# Altium integrated library Infineon_Microcontroller.IntLib: 721 symbols (part 61 of 66)
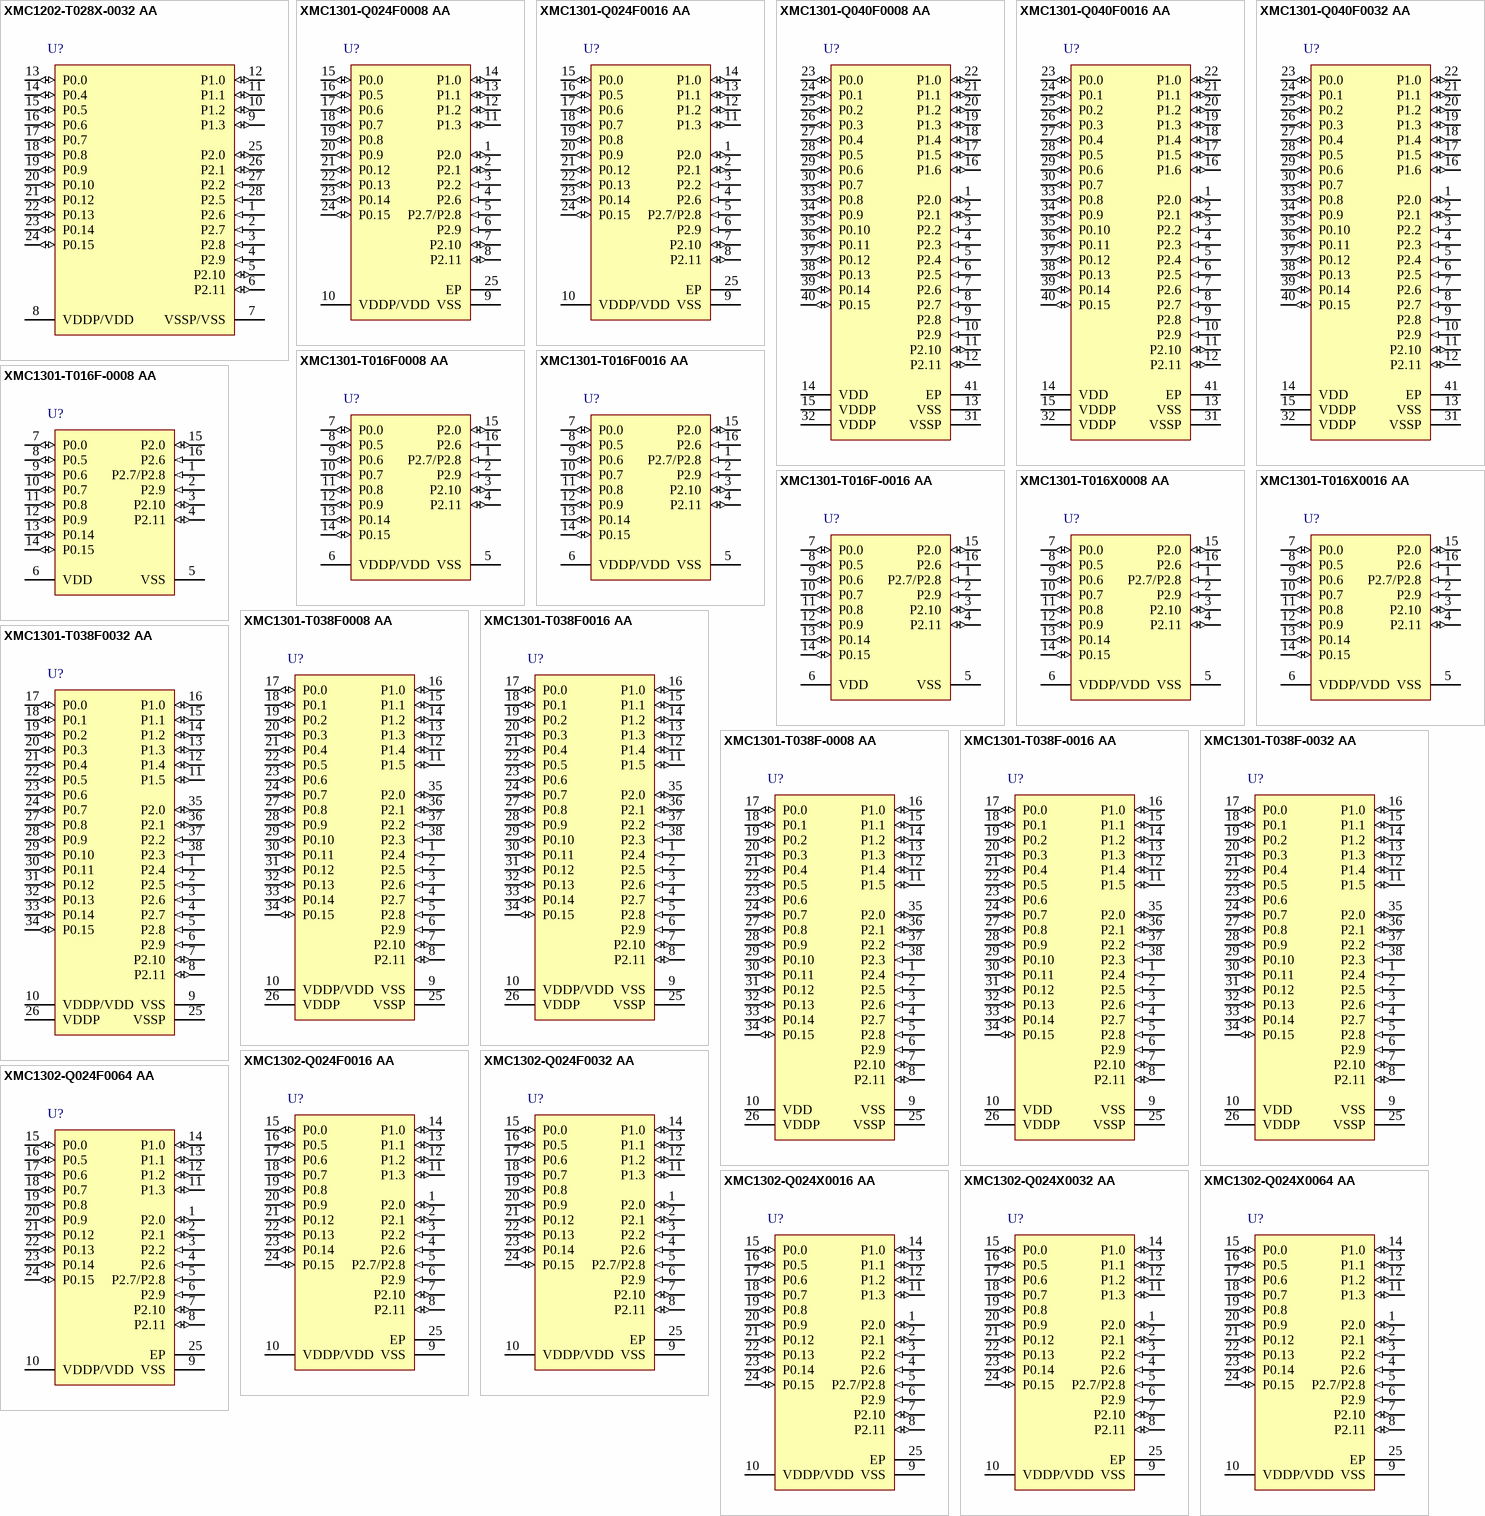
[diagram p178: symbols XMC1202-T028X-0032 AA to XMC1302-Q024X0064 AA]

## XMC1302-Q024X0016 AA
designator U?
32 MHz XMC1300 MCU with 16 KByte Program Memory, 16 KByte SRAM, 3.3 V, 5 V, -40 to 105 degC, PG-VQFN-24, Reel, Green; Manufacturer: Infineon; PartNumber: XMC1302-Q024X0016 AA; A / D input lines (incl. FADC): 8; Digital I/O Lines: 22; E2PROM Emulation (Data-Flash): TRUE; Instruction set architecture: ARM(R) Cortex(TM)-M0 (32-bit); Instruction width [bits]: 32/16; Max Clock Frequency: 32 MHz; Power Modes: clock gating possible; Serial I/O Interfaces: 2; Type of Memory: Flash; Type of Serial I/O Interfaces: UART, SPI, I2C, I2S; DatasheetVersion: Rev. 1.4; PackageVersion: Rev. 04; PackageReference: PG-VQFN-24-19; PackageDescription: 24-Pin Plastic (Green) Very Thin Profile Quad Flat Non Leaded Package, 4 x 4 mm Body, 0.5 mm Pitch; Green: TRUE; Group: XMC1300; Halogen-free: TRUE; I/O Operation Voltages: 3.3 V, 5 V; On-chip clock generation: TRUE; On-chip Voltage Regulator: TRUE; Oscillator Watchdog: TRUE; Packing: Reel; Program Memory: 16 KByte; Real Time Clock (RTC): TRUE; SRAM (incl. Cache): 16 KByte; Watchdog Timer: TRUE; Mounting Technology: Surface Mount; ComponentLink1Description: Manufacturer URL; ComponentLink1URL: http://www.infineon.com/; ComponentLink2Description: Datasheet; ComponentLink2URL: http://www.infineon.com/dgdl/xmc1300_ds_v1.4_2014_05.pdf?folderId=db3a30433580b3710135a47f3eb76c98&fileId=db3a30433d1d0bbe013d256ee0aa0ccb&ack=t; ComponentLink3Description: Package Specification; ComponentLink3URL: http://www.infineon.com/dgdl/xmc1300_ds_v1.4_2014_05.pdf?folderId=db3a30433580b3710135a47f3eb76c98&fileId=db3a30433d1d0bbe013d256ee0aa0ccb&ack=t
footprint INF-PG-VQFN-24-19_V (QFN, 24-Leads, Body 4x4mm, Pitch 0.5mm, Thermal Pad 2.6x2.6mm)
pins: 1 P2.0 (io), 2 P2.1 (io), 3 P2.2 (in), 4 P2.6 (in), 5 P2.7/P2.8 (in), 6 P2.9 (in), 7 P2.10 (io), 8 P2.11 (io), 9 VSS (power) "Supply GND, ADC reference GND", 10 VDDP/VDD (power), 11 P1.3 (io), 12 P1.2 (io), 13 P1.1 (io), 14 P1.0 (io), 15 P0.0 (io), 16 P0.5 (io), 17 P0.6 (io), 18 P0.7 (io), 19 P0.8 (io), 20 P0.9 (io), 21 P0.12 (io), 22 P0.13 (io), 23 P0.14 (io), 24 P0.15 (io), 25 EP (power) "Exposed Die Pad The exposed die pad is connected internally to VSSP. For proper operation, it is mandatory to connect the exposed pad to the board ground.For thermal aspects, please refer to the Package and Reliability (See Datasheet)"

## XMC1302-Q024X0032 AA
designator U?
32 MHz XMC1300 MCU with 32 KByte Program Memory, 16 KByte SRAM, 3.3 V, 5 V, -40 to 105 degC, PG-VQFN-24, Reel, Green; Manufacturer: Infineon; PartNumber: XMC1302-Q024X0032 AA; A / D input lines (incl. FADC): 8; Digital I/O Lines: 22; E2PROM Emulation (Data-Flash): TRUE; Instruction set architecture: ARM(R) Cortex(TM)-M0 (32-bit); Instruction width [bits]: 32/16; Max Clock Frequency: 32 MHz; Power Modes: clock gating possible; Serial I/O Interfaces: 2; Type of Memory: Flash; Type of Serial I/O Interfaces: UART, SPI, I2C, I2S; DatasheetVersion: Rev. 1.4; PackageVersion: Rev. 04; PackageReference: PG-VQFN-24-19; PackageDescription: 24-Pin Plastic (Green) Very Thin Profile Quad Flat Non Leaded Package, 4 x 4 mm Body, 0.5 mm Pitch; Green: TRUE; Group: XMC1300; Halogen-free: TRUE; I/O Operation Voltages: 3.3 V, 5 V; On-chip clock generation: TRUE; On-chip Voltage Regulator: TRUE; Oscillator Watchdog: TRUE; Packing: Reel; Program Memory: 32 KByte; Real Time Clock (RTC): TRUE; SRAM (incl. Cache): 16 KByte; Watchdog Timer: TRUE; Mounting Technology: Surface Mount; ComponentLink1Description: Manufacturer URL; ComponentLink1URL: http://www.infineon.com/; ComponentLink2Description: Datasheet; ComponentLink2URL: http://www.infineon.com/dgdl/xmc1300_ds_v1.4_2014_05.pdf?folderId=db3a30433580b3710135a47f3eb76c98&fileId=db3a30433d1d0bbe013d256ee0aa0ccb&ack=t; ComponentLink3Description: Package Specification; ComponentLink3URL: http://www.infineon.com/dgdl/xmc1300_ds_v1.4_2014_05.pdf?folderId=db3a30433580b3710135a47f3eb76c98&fileId=db3a30433d1d0bbe013d256ee0aa0ccb&ack=t
footprint INF-PG-VQFN-24-19_V (QFN, 24-Leads, Body 4x4mm, Pitch 0.5mm, Thermal Pad 2.6x2.6mm)
pins: 1 P2.0 (io), 2 P2.1 (io), 3 P2.2 (in), 4 P2.6 (in), 5 P2.7/P2.8 (in), 6 P2.9 (in), 7 P2.10 (io), 8 P2.11 (io), 9 VSS (power) "Supply GND, ADC reference GND", 10 VDDP/VDD (power), 11 P1.3 (io), 12 P1.2 (io), 13 P1.1 (io), 14 P1.0 (io), 15 P0.0 (io), 16 P0.5 (io), 17 P0.6 (io), 18 P0.7 (io), 19 P0.8 (io), 20 P0.9 (io), 21 P0.12 (io), 22 P0.13 (io), 23 P0.14 (io), 24 P0.15 (io), 25 EP (power) "Exposed Die Pad The exposed die pad is connected internally to VSSP. For proper operation, it is mandatory to connect the exposed pad to the board ground.For thermal aspects, please refer to the Package and Reliability (See Datasheet)"

## XMC1302-Q024X0064 AA
designator U?
32 MHz XMC1300 MCU with 64 KByte Program Memory, 16 KByte SRAM, 3.3 V, 5 V, -40 to 105 degC, PG-VQFN-24, Reel, Green; Manufacturer: Infineon; PartNumber: XMC1302-Q024X0064 AA; A / D input lines (incl. FADC): 8; Digital I/O Lines: 22; E2PROM Emulation (Data-Flash): TRUE; Instruction set architecture: ARM(R) Cortex(TM)-M0 (32-bit); Instruction width [bits]: 32/16; Max Clock Frequency: 32 MHz; Power Modes: clock gating possible; Serial I/O Interfaces: 2; Type of Memory: Flash; Type of Serial I/O Interfaces: UART, SPI, I2C, I2S; DatasheetVersion: Rev. 1.4; PackageVersion: Rev. 04; PackageReference: PG-VQFN-24-19; PackageDescription: 24-Pin Plastic (Green) Very Thin Profile Quad Flat Non Leaded Package, 4 x 4 mm Body, 0.5 mm Pitch; Green: TRUE; Group: XMC1300; Halogen-free: TRUE; I/O Operation Voltages: 3.3 V, 5 V; On-chip clock generation: TRUE; On-chip Voltage Regulator: TRUE; Oscillator Watchdog: TRUE; Packing: Reel; Program Memory: 64 KByte; Real Time Clock (RTC): TRUE; SRAM (incl. Cache): 16 KByte; Watchdog Timer: TRUE; Mounting Technology: Surface Mount; ComponentLink1Description: Manufacturer URL; ComponentLink1URL: http://www.infineon.com/; ComponentLink2Description: Datasheet; ComponentLink2URL: http://www.infineon.com/dgdl/xmc1300_ds_v1.4_2014_05.pdf?folderId=db3a30433580b3710135a47f3eb76c98&fileId=db3a30433d1d0bbe013d256ee0aa0ccb&ack=t; ComponentLink3Description: Package Specification; ComponentLink3URL: http://www.infineon.com/dgdl/xmc1300_ds_v1.4_2014_05.pdf?folderId=db3a30433580b3710135a47f3eb76c98&fileId=db3a30433d1d0bbe013d256ee0aa0ccb&ack=t
footprint INF-PG-VQFN-24-19_V (QFN, 24-Leads, Body 4x4mm, Pitch 0.5mm, Thermal Pad 2.6x2.6mm)
pins: 1 P2.0 (io), 2 P2.1 (io), 3 P2.2 (in), 4 P2.6 (in), 5 P2.7/P2.8 (in), 6 P2.9 (in), 7 P2.10 (io), 8 P2.11 (io), 9 VSS (power) "Supply GND, ADC reference GND", 10 VDDP/VDD (power), 11 P1.3 (io), 12 P1.2 (io), 13 P1.1 (io), 14 P1.0 (io), 15 P0.0 (io), 16 P0.5 (io), 17 P0.6 (io), 18 P0.7 (io), 19 P0.8 (io), 20 P0.9 (io), 21 P0.12 (io), 22 P0.13 (io), 23 P0.14 (io), 24 P0.15 (io), 25 EP (power) "Exposed Die Pad The exposed die pad is connected internally to VSSP. For proper operation, it is mandatory to connect the exposed pad to the board ground.For thermal aspects, please refer to the Package and Reliability (See Datasheet)"

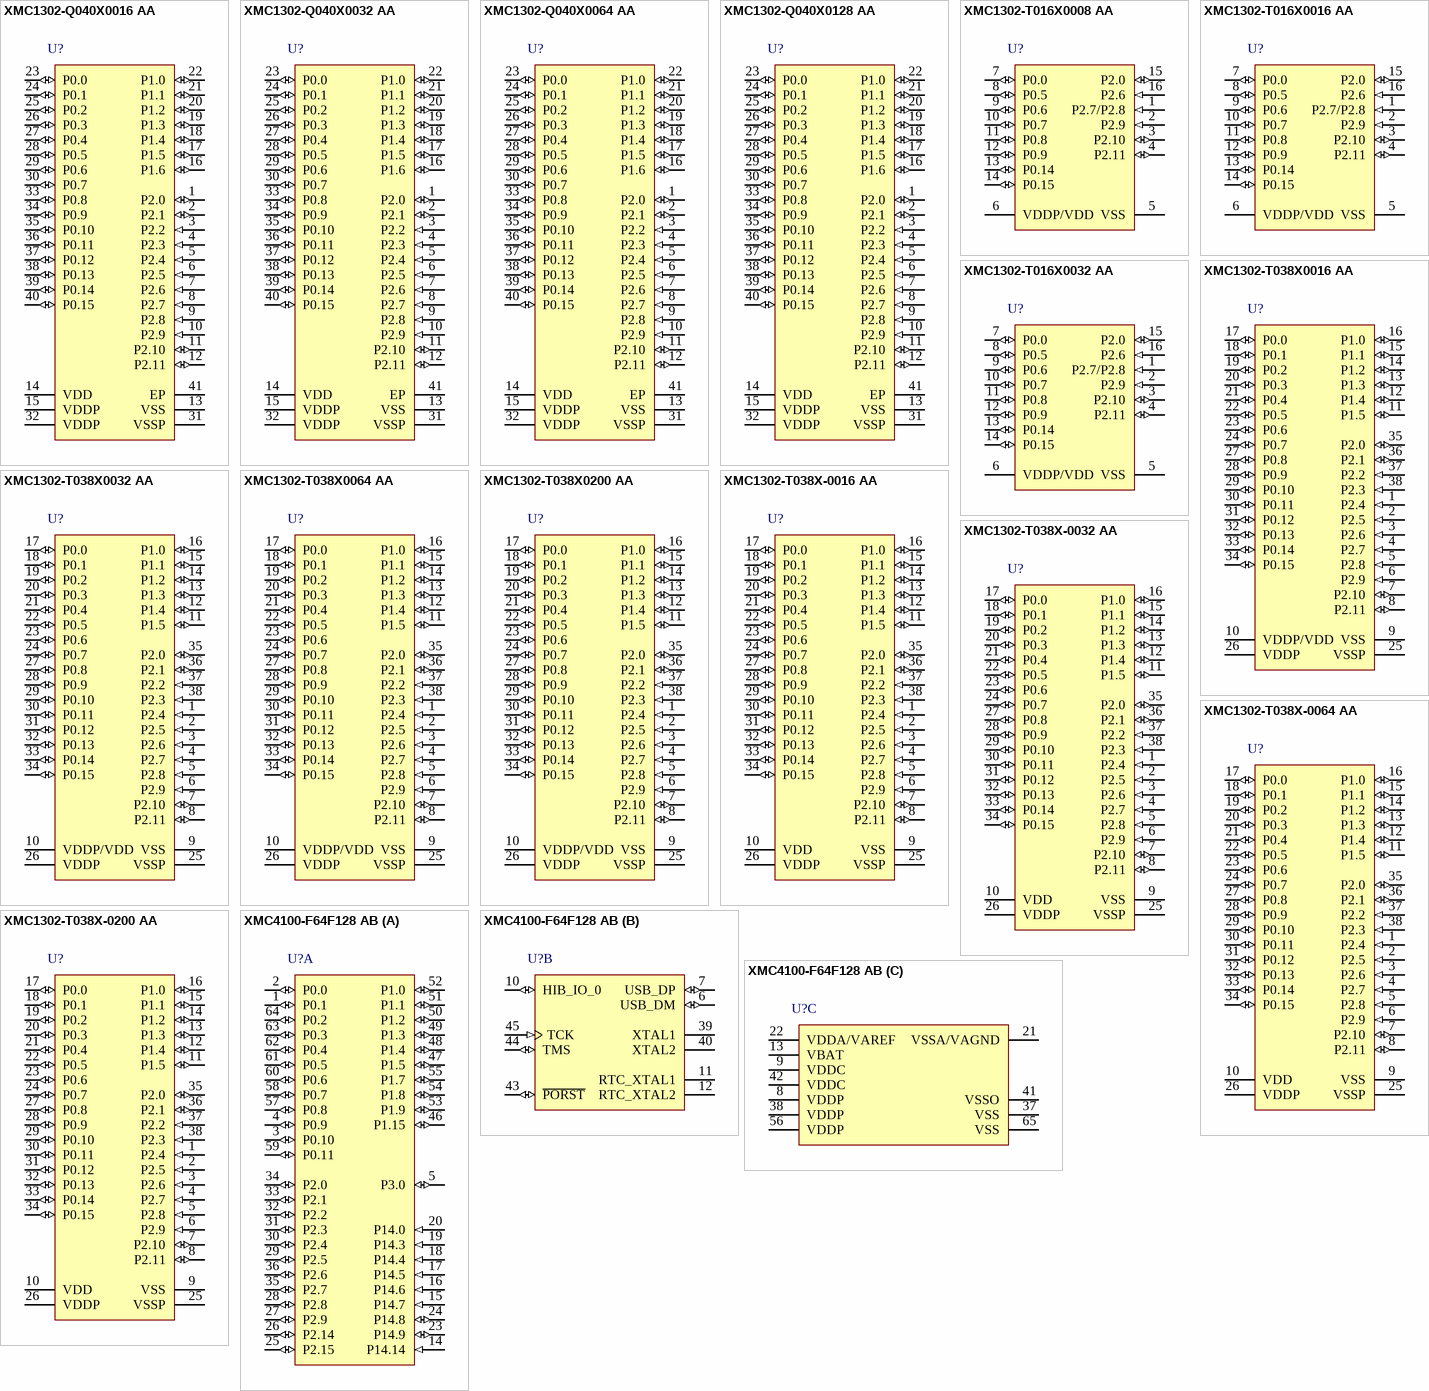
[diagram p108: symbols XMC1302-Q040X0016 AA to XMC4100-F64F128 AB]

## XMC1302-Q040X0016 AA
designator U?
32 MHz XMC1300 MCU with 16 KByte Program Memory, 16 KByte SRAM, 3.3 V, 5 V, -40 to 105 degC, PG-VQFN-40, Reel, Green; Manufacturer: Infineon; PartNumber: XMC1302-Q040X0016 AA; A / D input lines (incl. FADC): 12; Digital I/O Lines: 34; E2PROM Emulation (Data-Flash): TRUE; Instruction set architecture: ARM(R) Cortex(TM)-M0 (32-bit); Instruction width [bits]: 32/16; Max Clock Frequency: 32 MHz; Power Modes: clock gating possible; Serial I/O Interfaces: 2; Type of Memory: Flash; Type of Serial I/O Interfaces: UART, SPI, I2C, I2S; DatasheetVersion: Rev. 1.4; PackageVersion: Rev. 01; PackageReference: PG-VQFN-40-13; PackageDescription: 40-Pin Plastic (Green) Very Thin Profile Quad Flat Non Leaded Package, 5 x 5 mm Body, 0.4 mm Pitch; Green: TRUE; Group: XMC1300; Halogen-free: TRUE; I/O Operation Voltages: 3.3 V, 5 V; On-chip clock generation: TRUE; On-chip Voltage Regulator: TRUE; Oscillator Watchdog: TRUE; Packing: Reel; Program Memory: 16 KByte; Real Time Clock (RTC): TRUE; SRAM (incl. Cache): 16 KByte; Watchdog Timer: TRUE; Mounting Technology: Surface Mount; ComponentLink1Description: Manufacturer URL; ComponentLink1URL: http://www.infineon.com/; ComponentLink2Description: Datasheet; ComponentLink2URL: http://www.infineon.com/dgdl/xmc1300_ds_v1.4_2014_05.pdf?folderId=db3a30433580b3710135a47f3eb76c98&fileId=db3a30433d1d0bbe013d256ee0aa0ccb&ack=t; ComponentLink3Description: Package Specification; ComponentLink3URL: http://www.infineon.com/cms/packages/SMD_-_Surface_Mounted_Devices/P-PG-VQFN/P-PG-VQFN-040-13.html?__locale=en
footprint INF-PG-VQFN-40-13_V (QFN, 40-Leads, Body 5x5mm, Pitch 0.4mm, Thermal Pad 3.6x3.6mm)
pins: 1 P2.0 (io), 2 P2.1 (io), 3 P2.2 (in), 4 P2.3 (in), 5 P2.4 (in), 6 P2.5 (in), 7 P2.6 (in), 8 P2.7 (in), 9 P2.8 (in), 10 P2.9 (in), 11 P2.10 (io), 12 P2.11 (io), 13 VSS (power) "Supply GND, ADC reference GND", 14 VDD (power) "Supply VDD, ADC reference voltage/ORC reference voltage. VDD has to be supplied with the same voltage as VDDP", 15 VDDP (power) "I/O port supply", 16 P1.6 (io), 17 P1.5 (io), 18 P1.4 (io), 19 P1.3 (io), 20 P1.2 (io), 21 P1.1 (io), 22 P1.0 (io), 23 P0.0 (io), 24 P0.1 (io), 25 P0.2 (io), 26 P0.3 (io), 27 P0.4 (io), 28 P0.5 (io), 29 P0.6 (io), 30 P0.7 (io), 31 VSSP (power) "I/O port ground", 32 VDDP (power) "I/O port supply", 33 P0.8 (io), 34 P0.9 (io), 35 P0.10 (io), 36 P0.11 (io), 37 P0.12 (io), 38 P0.13 (io), 39 P0.14 (io), 40 P0.15 (io), 41 EP (power) "Exposed Die Pad The exposed die pad is connected internally to VSSP.For proper operation, it is mandatory to connect the exposed pad to the board ground For thermal aspects, please refer to the Package and Reliability chapter."

## XMC1302-Q040X0032 AA
designator U?
32 MHz XMC1300 MCU with 32 KByte Program Memory, 16 KByte SRAM, 3.3 V, 5 V, -40 to 105 degC, PG-VQFN-40, Reel, Green; Manufacturer: Infineon; PartNumber: XMC1302-Q040X0032 AA; A / D input lines (incl. FADC): 12; Digital I/O Lines: 34; E2PROM Emulation (Data-Flash): TRUE; Instruction set architecture: ARM(R) Cortex(TM)-M0 (32-bit); Instruction width [bits]: 32/16; Max Clock Frequency: 32 MHz; Power Modes: clock gating possible; Serial I/O Interfaces: 2; Type of Memory: Flash; Type of Serial I/O Interfaces: UART, SPI, I2C, I2S; DatasheetVersion: Rev. 1.4; PackageVersion: Rev. 01; PackageReference: PG-VQFN-40-13; PackageDescription: 40-Pin Plastic (Green) Very Thin Profile Quad Flat Non Leaded Package, 5 x 5 mm Body, 0.4 mm Pitch; Green: TRUE; Group: XMC1300; Halogen-free: TRUE; I/O Operation Voltages: 3.3 V, 5 V; On-chip clock generation: TRUE; On-chip Voltage Regulator: TRUE; Oscillator Watchdog: TRUE; Packing: Reel; Program Memory: 32 KByte; Real Time Clock (RTC): TRUE; SRAM (incl. Cache): 16 KByte; Watchdog Timer: TRUE; Mounting Technology: Surface Mount; ComponentLink1Description: Manufacturer URL; ComponentLink1URL: http://www.infineon.com/; ComponentLink2Description: Datasheet; ComponentLink2URL: http://www.infineon.com/dgdl/xmc1300_ds_v1.3_2014_02.pdf?folderId=db3a30433580b3710135a47f3eb76c98&fileId=db3a30433d1d0bbe013d256ee0aa0ccb; ComponentLink3Description: Package Specification; ComponentLink3URL: http://www.infineon.com/cms/packages/SMD_-_Surface_Mounted_Devices/P-PG-VQFN/P-PG-VQFN-040-13.html?__locale=en
footprint INF-PG-VQFN-40-13_V (QFN, 40-Leads, Body 5x5mm, Pitch 0.4mm, Thermal Pad 3.6x3.6mm)
pins: 1 P2.0 (io), 2 P2.1 (io), 3 P2.2 (in), 4 P2.3 (in), 5 P2.4 (in), 6 P2.5 (in), 7 P2.6 (in), 8 P2.7 (in), 9 P2.8 (in), 10 P2.9 (in), 11 P2.10 (io), 12 P2.11 (io), 13 VSS (power) "Supply GND, ADC reference GND", 14 VDD (power) "Supply VDD, ADC reference voltage/ORC reference voltage. VDD has to be supplied with the same voltage as VDDP", 15 VDDP (power) "I/O port supply", 16 P1.6 (io), 17 P1.5 (io), 18 P1.4 (io), 19 P1.3 (io), 20 P1.2 (io), 21 P1.1 (io), 22 P1.0 (io), 23 P0.0 (io), 24 P0.1 (io), 25 P0.2 (io), 26 P0.3 (io), 27 P0.4 (io), 28 P0.5 (io), 29 P0.6 (io), 30 P0.7 (io), 31 VSSP (power) "I/O port ground", 32 VDDP (power) "I/O port supply", 33 P0.8 (io), 34 P0.9 (io), 35 P0.10 (io), 36 P0.11 (io), 37 P0.12 (io), 38 P0.13 (io), 39 P0.14 (io), 40 P0.15 (io), 41 EP (power) "Exposed Die Pad The exposed die pad is connected internally to VSSP.For proper operation, it is mandatory to connect the exposed pad to the board ground For thermal aspects, please refer to the Package and Reliability chapter."

## XMC1302-Q040X0064 AA
designator U?
32 MHz XMC1300 MCU with 64 KByte Program Memory, 16 KByte SRAM, 3.3 V, 5 V, -40 to 105 degC, PG-VQFN-40, Reel, Green; Manufacturer: Infineon; PartNumber: XMC1302-Q040X0064 AA; A / D input lines (incl. FADC): 12; Digital I/O Lines: 34; E2PROM Emulation (Data-Flash): TRUE; Instruction set architecture: ARM(R) Cortex(TM)-M0 (32-bit); Instruction width [bits]: 32/16; Max Clock Frequency: 32 MHz; Power Modes: clock gating possible; Serial I/O Interfaces: 2; Type of Memory: Flash; Type of Serial I/O Interfaces: UART, SPI, I2C, I2S; DatasheetVersion: Rev. 1.4; PackageVersion: Rev. 01; PackageReference: PG-VQFN-40-13; PackageDescription: 40-Pin Plastic (Green) Very Thin Profile Quad Flat Non Leaded Package, 5 x 5 mm Body, 0.4 mm Pitch; Green: TRUE; Group: XMC1300; Halogen-free: TRUE; I/O Operation Voltages: 3.3 V, 5 V; On-chip clock generation: TRUE; On-chip Voltage Regulator: TRUE; Oscillator Watchdog: TRUE; Packing: Reel; Program Memory: 64 KByte; Real Time Clock (RTC): TRUE; SRAM (incl. Cache): 16 KByte; Watchdog Timer: TRUE; Mounting Technology: Surface Mount; ComponentLink1Description: Manufacturer URL; ComponentLink1URL: http://www.infineon.com/; ComponentLink2Description: Datasheet; ComponentLink2URL: http://www.infineon.com/dgdl/xmc1300_ds_v1.3_2014_02.pdf?folderId=db3a30433580b3710135a47f3eb76c98&fileId=db3a30433d1d0bbe013d256ee0aa0ccb; ComponentLink3Description: Package Specification; ComponentLink3URL: http://www.infineon.com/cms/packages/SMD_-_Surface_Mounted_Devices/P-PG-VQFN/P-PG-VQFN-040-13.html?__locale=en
footprint INF-PG-VQFN-40-13_V (QFN, 40-Leads, Body 5x5mm, Pitch 0.4mm, Thermal Pad 3.6x3.6mm)
pins: 1 P2.0 (io), 2 P2.1 (io), 3 P2.2 (in), 4 P2.3 (in), 5 P2.4 (in), 6 P2.5 (in), 7 P2.6 (in), 8 P2.7 (in), 9 P2.8 (in), 10 P2.9 (in), 11 P2.10 (io), 12 P2.11 (io), 13 VSS (power) "Supply GND, ADC reference GND", 14 VDD (power) "Supply VDD, ADC reference voltage/ORC reference voltage. VDD has to be supplied with the same voltage as VDDP", 15 VDDP (power) "I/O port supply", 16 P1.6 (io), 17 P1.5 (io), 18 P1.4 (io), 19 P1.3 (io), 20 P1.2 (io), 21 P1.1 (io), 22 P1.0 (io), 23 P0.0 (io), 24 P0.1 (io), 25 P0.2 (io), 26 P0.3 (io), 27 P0.4 (io), 28 P0.5 (io), 29 P0.6 (io), 30 P0.7 (io), 31 VSSP (power) "I/O port ground", 32 VDDP (power) "I/O port supply", 33 P0.8 (io), 34 P0.9 (io), 35 P0.10 (io), 36 P0.11 (io), 37 P0.12 (io), 38 P0.13 (io), 39 P0.14 (io), 40 P0.15 (io), 41 EP (power) "Exposed Die Pad The exposed die pad is connected internally to VSSP.For proper operation, it is mandatory to connect the exposed pad to the board ground For thermal aspects, please refer to the Package and Reliability chapter."

## XMC1302-Q040X0128 AA
designator U?
32 MHz XMC1300 MCU with 128 KByte Program Memory, 16 KByte SRAM, 3.3 V, 5 V, -40 to 105 degC, PG-VQFN-40, Reel, Green; Manufacturer: Infineon; PartNumber: XMC1302-Q040X0128 AA; A / D input lines (incl. FADC): 12; Digital I/O Lines: 34; E2PROM Emulation (Data-Flash): TRUE; Instruction set architecture: ARM(R) Cortex(TM)-M0 (32-bit); Instruction width [bits]: 32/16; Max Clock Frequency: 32 MHz; Power Modes: clock gating possible; Serial I/O Interfaces: 2; Type of Memory: Flash; Type of Serial I/O Interfaces: UART, SPI, I2C, I2S; DatasheetVersion: Rev. 1.4; PackageVersion: Rev. 01; PackageReference: PG-VQFN-40-13; PackageDescription: 40-Pin Plastic (Green) Very Thin Profile Quad Flat Non Leaded Package, 5 x 5 mm Body, 0.4 mm Pitch; Green: TRUE; Group: XMC1300; Halogen-free: TRUE; I/O Operation Voltages: 3.3 V, 5 V; On-chip clock generation: TRUE; On-chip Voltage Regulator: TRUE; Oscillator Watchdog: TRUE; Packing: Reel; Program Memory: 128 KByte; Real Time Clock (RTC): TRUE; SRAM (incl. Cache): 16 KByte; Watchdog Timer: TRUE; Mounting Technology: Surface Mount; ComponentLink1Description: Manufacturer URL; ComponentLink1URL: http://www.infineon.com/; ComponentLink2Description: Datasheet; ComponentLink2URL: http://www.infineon.com/dgdl/xmc1300_ds_v1.3_2014_02.pdf?folderId=db3a30433580b3710135a47f3eb76c98&fileId=db3a30433d1d0bbe013d256ee0aa0ccb; ComponentLink3Description: Package Specification; ComponentLink3URL: http://www.infineon.com/cms/packages/SMD_-_Surface_Mounted_Devices/P-PG-VQFN/P-PG-VQFN-040-13.html?__locale=en
footprint INF-PG-VQFN-40-13_V (QFN, 40-Leads, Body 5x5mm, Pitch 0.4mm, Thermal Pad 3.6x3.6mm)
pins: 1 P2.0 (io), 2 P2.1 (io), 3 P2.2 (in), 4 P2.3 (in), 5 P2.4 (in), 6 P2.5 (in), 7 P2.6 (in), 8 P2.7 (in), 9 P2.8 (in), 10 P2.9 (in), 11 P2.10 (io), 12 P2.11 (io), 13 VSS (power) "Supply GND, ADC reference GND", 14 VDD (power) "Supply VDD, ADC reference voltage/ORC reference voltage. VDD has to be supplied with the same voltage as VDDP", 15 VDDP (power) "I/O port supply", 16 P1.6 (io), 17 P1.5 (io), 18 P1.4 (io), 19 P1.3 (io), 20 P1.2 (io), 21 P1.1 (io), 22 P1.0 (io), 23 P0.0 (io), 24 P0.1 (io), 25 P0.2 (io), 26 P0.3 (io), 27 P0.4 (io), 28 P0.5 (io), 29 P0.6 (io), 30 P0.7 (io), 31 VSSP (power) "I/O port ground", 32 VDDP (power) "I/O port supply", 33 P0.8 (io), 34 P0.9 (io), 35 P0.10 (io), 36 P0.11 (io), 37 P0.12 (io), 38 P0.13 (io), 39 P0.14 (io), 40 P0.15 (io), 41 EP (power) "Exposed Die Pad The exposed die pad is connected internally to VSSP.For proper operation, it is mandatory to connect the exposed pad to the board ground For thermal aspects, please refer to the Package and Reliability chapter."

## XMC1302-T016X0008 AA
designator U?
32 MHz XMC1300 MCU with 8 KByte Program Memory, 16 KByte SRAM, 3.3 V, 5 V, -40 to 115 degC, PG-TSSOP-16, Reel, Green; Manufacturer: Infineon; PartNumber: XMC1302-T016X0008 AA; A / D input lines (incl. FADC): 6; Digital I/O Lines: 14; E2PROM Emulation (Data-Flash): TRUE; Instruction set architecture: ARM(R) Cortex(TM)-M0 (32-bit); Instruction width [bits]: 32/16; Max Clock Frequency: 32 MHz; Power Modes: clock gating possible; Program Memory: 8 KByte; Serial I/O Interfaces: 2; Type of Memory: Flash; Type of Serial I/O Interfaces: UART, SPI, I2C, I2S; DatasheetVersion: Rev. 1.4; PackageVersion: Rev. 1.4, 05/2014; PackageReference: PG-TSSOP-16-8; PackageDescription: 16-Pin Plastic (Green) Thin Shrink Small Outline Package, 4.4 x 5 mm Body, 0.65 mm Pitch; Green: TRUE; Group: XMC1300; Halogen-free: TRUE; I/O Operation Voltages: 3.3 V, 5 V; On-chip clock generation: TRUE; On-chip Voltage Regulator: TRUE; Oscillator Watchdog: TRUE; Packing: Reel; Real Time Clock (RTC): TRUE; SRAM (incl. Cache): 16 KByte; Watchdog Timer: TRUE; Mounting Technology: Surface Mount; ComponentLink1Description: Manufacturer URL; ComponentLink1URL: http://www.infineon.com/; ComponentLink2Description: Datasheet; ComponentLink2URL: http://www.infineon.com/dgdl/xmc1300_ds_v1.4_2014_05.pdf?folderId=db3a30433580b3710135a47f3eb76c98&fileId=db3a30433d1d0bbe013d256ee0aa0ccb&ack=t; ComponentLink3Description: Package Specification; ComponentLink3URL: http://www.infineon.com/dgdl/xmc1300_ds_v1.4_2014_05.pdf?folderId=db3a30433580b3710135a47f3eb76c98&fileId=db3a30433d1d0bbe013d256ee0aa0ccb&ack=t
footprint INF-PG-TSSOP-16-8_N (SOP, 16-Leads, Body 5x4.4mm, Pitch 0.65mm, IPC Medium Density)
footprint INF-PG-TSSOP-16-8_L (SOP, 16-Leads, Body 5x4.4mm, Pitch 0.65mm, IPC High Density)
footprint INF-PG-TSSOP-16-8_M (SOP, 16-Leads, Body 5x4.4mm, Pitch 0.65mm, IPC Low Density)
pins: 1 P2.7/P2.8 (in), 2 P2.9 (in), 3 P2.10 (io), 4 P2.11 (io), 5 VSS (power) "Supply GND, ADC reference GND", 6 VDDP/VDD (power), 7 P0.0 (io), 8 P0.5 (io), 9 P0.6 (io), 10 P0.7 (io), 11 P0.8 (io), 12 P0.9 (io), 13 P0.14 (io), 14 P0.15 (io), 15 P2.0 (io), 16 P2.6 (in)

## XMC1302-T016X0016 AA
designator U?
32 MHz XMC1300 MCU with 16 KByte Program Memory, 16 KByte SRAM, 3.3 V, 5 V, -40 to 105 degC, PG-TSSOP-16, Reel, Green; Manufacturer: Infineon; PartNumber: XMC1302-T016X0016 AA; A / D input lines (incl. FADC): 6; Digital I/O Lines: 14; E2PROM Emulation (Data-Flash): TRUE; Instruction set architecture: ARM(R) Cortex(TM)-M0 (32-bit); Instruction width [bits]: 32/16; Max Clock Frequency: 32 MHz; Power Modes: clock gating possible; Serial I/O Interfaces: 2; Type of Memory: Flash; Type of Serial I/O Interfaces: UART, SPI, I2C, I2S; DatasheetVersion: Rev. 1.4; PackageVersion: Rev. 1.4, 05/2014; PackageReference: PG-TSSOP-16-8; PackageDescription: 16-Pin Plastic (Green) Thin Shrink Small Outline Package, 4.4 x 5 mm Body, 0.65 mm Pitch; Green: TRUE; Group: XMC1300; Halogen-free: TRUE; I/O Operation Voltages: 3.3 V, 5 V; On-chip clock generation: TRUE; On-chip Voltage Regulator: TRUE; Oscillator Watchdog: TRUE; Packing: Reel; Program Memory: 16 KByte; Real Time Clock (RTC): TRUE; SRAM (incl. Cache): 16 KByte; Watchdog Timer: TRUE; Mounting Technology: Surface Mount; ComponentLink1Description: Manufacturer URL; ComponentLink1URL: http://www.infineon.com/; ComponentLink2Description: Datasheet; ComponentLink2URL: http://www.infineon.com/dgdl/xmc1300_ds_v1.4_2014_05.pdf?folderId=db3a30433580b3710135a47f3eb76c98&fileId=db3a30433d1d0bbe013d256ee0aa0ccb&ack=t; ComponentLink3Description: Package Specification; ComponentLink3URL: http://www.infineon.com/dgdl/xmc1300_ds_v1.4_2014_05.pdf?folderId=db3a30433580b3710135a47f3eb76c98&fileId=db3a30433d1d0bbe013d256ee0aa0ccb&ack=t
footprint INF-PG-TSSOP-16-8_N (SOP, 16-Leads, Body 5x4.4mm, Pitch 0.65mm, IPC Medium Density)
footprint INF-PG-TSSOP-16-8_L (SOP, 16-Leads, Body 5x4.4mm, Pitch 0.65mm, IPC High Density)
footprint INF-PG-TSSOP-16-8_M (SOP, 16-Leads, Body 5x4.4mm, Pitch 0.65mm, IPC Low Density)
pins: 1 P2.7/P2.8 (in), 2 P2.9 (in), 3 P2.10 (io), 4 P2.11 (io), 5 VSS (power) "Supply GND, ADC reference GND", 6 VDDP/VDD (power), 7 P0.0 (io), 8 P0.5 (io), 9 P0.6 (io), 10 P0.7 (io), 11 P0.8 (io), 12 P0.9 (io), 13 P0.14 (io), 14 P0.15 (io), 15 P2.0 (io), 16 P2.6 (in)

## XMC1302-T016X0032 AA
designator U?
32 MHz XMC1300 MCU with 32 KByte Program Memory, 16 KByte SRAM, 3.3 V, 5 V, -40 to 105 degC, PG-TSSOP-16, Reel, Green; Manufacturer: Infineon; PartNumber: XMC1302-T016X0032 AA; A / D input lines (incl. FADC): 6; Digital I/O Lines: 14; E2PROM Emulation (Data-Flash): TRUE; Instruction set architecture: ARM(R) Cortex(TM)-M0 (32-bit); Instruction width [bits]: 32/16; Max Clock Frequency: 32 MHz; Power Modes: clock gating possible; Serial I/O Interfaces: 2; Type of Memory: Flash; Type of Serial I/O Interfaces: UART, SPI, I2C, I2S; DatasheetVersion: Rev. 1.4; PackageVersion: Rev. 1.4, 05/2014; PackageReference: PG-TSSOP-16-8; PackageDescription: 16-Pin Plastic (Green) Thin Shrink Small Outline Package, 4.4 x 5 mm Body, 0.65 mm Pitch; Green: TRUE; Group: XMC1300; Halogen-free: TRUE; I/O Operation Voltages: 3.3 V, 5 V; On-chip clock generation: TRUE; On-chip Voltage Regulator: TRUE; Oscillator Watchdog: TRUE; Packing: Reel; Program Memory: 32 KByte; Real Time Clock (RTC): TRUE; SRAM (incl. Cache): 16 KByte; Watchdog Timer: TRUE; Mounting Technology: Surface Mount; ComponentLink1Description: Manufacturer URL; ComponentLink1URL: http://www.infineon.com/; ComponentLink2Description: Datasheet; ComponentLink2URL: http://www.infineon.com/dgdl/xmc1300_ds_v1.4_2014_05.pdf?folderId=db3a30433580b3710135a47f3eb76c98&fileId=db3a30433d1d0bbe013d256ee0aa0ccb&ack=t; ComponentLink3Description: Package Specification; ComponentLink3URL: http://www.infineon.com/dgdl/xmc1300_ds_v1.4_2014_05.pdf?folderId=db3a30433580b3710135a47f3eb76c98&fileId=db3a30433d1d0bbe013d256ee0aa0ccb&ack=t
footprint INF-PG-TSSOP-16-8_N (SOP, 16-Leads, Body 5x4.4mm, Pitch 0.65mm, IPC Medium Density)
footprint INF-PG-TSSOP-16-8_L (SOP, 16-Leads, Body 5x4.4mm, Pitch 0.65mm, IPC High Density)
footprint INF-PG-TSSOP-16-8_M (SOP, 16-Leads, Body 5x4.4mm, Pitch 0.65mm, IPC Low Density)
pins: 1 P2.7/P2.8 (in), 2 P2.9 (in), 3 P2.10 (io), 4 P2.11 (io), 5 VSS (power) "Supply GND, ADC reference GND", 6 VDDP/VDD (power), 7 P0.0 (io), 8 P0.5 (io), 9 P0.6 (io), 10 P0.7 (io), 11 P0.8 (io), 12 P0.9 (io), 13 P0.14 (io), 14 P0.15 (io), 15 P2.0 (io), 16 P2.6 (in)

## XMC1302-T038X0016 AA
designator U?
32 MHz XMC1300 MCU with 16 KByte Program Memory, 16 KByte SRAM, 3.3 V, 5 V, -40 to 105 degC, PG-TSSOP-38, Reel, Green; Manufacturer: Infineon; PartNumber: XMC1302-T038X0016 AA; A / D input lines (incl. FADC): 12; Digital I/O Lines: 34; E2PROM Emulation (Data-Flash): TRUE; Instruction set architecture: ARM(R) Cortex(TM)-M0 (32-bit); Instruction width [bits]: 32/16; Max Clock Frequency: 32 MHz; Power Modes: clock gating possible; Serial I/O Interfaces: 2; Type of Memory: Flash; Type of Serial I/O Interfaces: UART, SPI, I2C, I2S; DatasheetVersion: Rev. 1.4; PackageReference: PG-TSSOP-38-9; PackageDescription: 38-Pin Plastic (Green) Thin Shrink Small Outline Package, 9.7 x 4.4 mm Body, 0.5 mm Pitch; Green: TRUE; Group: XMC1300; Halogen-free: TRUE; I/O Operation Voltages: 3.3 V, 5 V; On-chip clock generation: TRUE; On-chip Voltage Regulator: TRUE; Oscillator Watchdog: TRUE; Packing: Reel; Program Memory: 16 KByte; Real Time Clock (RTC): TRUE; SRAM (incl. Cache): 16 KByte; Watchdog Timer: TRUE; Mounting Technology: Surface Mount; ComponentLink1Description: Manufacturer URL; ComponentLink1URL: http://www.infineon.com/; ComponentLink2Description: Datasheet; ComponentLink2URL: http://www.infineon.com/dgdl/xmc1300_ds_v1.4_2014_05.pdf?folderId=db3a30433580b3710135a47f3eb76c98&fileId=db3a30433d1d0bbe013d256ee0aa0ccb&sd=t; ComponentLink3Description: Package Specification; ComponentLink3URL: http://www.infineon.com/dgdl/xmc1100_ds_v1.3_2014_02.pdf?folderId=db3a30433580b3710135a47f3eb76c98&fileId=db3a30433d1d0bbe013d256b60160b7f&ack=t
footprint INF-PG-TSSOP-38-9_N (SOP, 38-Leads, Body 9.7x4.4mm, Pitch 0.5mm, IPC Medium Density)
footprint INF-PG-TSSOP-38-9_L (SOP, 38-Leads, Body 9.7x4.4mm, Pitch 0.5mm, IPC High Density)
footprint INF-PG-TSSOP-38-9_M (SOP, 38-Leads, Body 9.7x4.4mm, Pitch 0.5mm, IPC Low Density)
pins: 1 P2.4 (in), 2 P2.5 (in), 3 P2.6 (in), 4 P2.7 (in), 5 P2.8 (in), 6 P2.9 (in), 7 P2.10 (io), 8 P2.11 (io), 9 VSS (power) "Supply GND, ADC reference GND", 10 VDDP/VDD (power), 11 P1.5 (io), 12 P1.4 (io), 13 P1.3 (io), 14 P1.2 (io), 15 P1.1 (io), 16 P1.0 (io), 17 P0.0 (io), 18 P0.1 (io), 19 P0.2 (io), 20 P0.3 (io), 21 P0.4 (io), 22 P0.5 (io), 23 P0.6 (io), 24 P0.7 (io), 25 VSSP (power) "I/O port ground", 26 VDDP (power) "I/O port supply", 27 P0.8 (io), 28 P0.9 (io), 29 P0.10 (io), 30 P0.11 (io), 31 P0.12 (io), 32 P0.13 (io), 33 P0.14 (io), 34 P0.15 (io), 35 P2.0 (io), 36 P2.1 (io), 37 P2.2 (in), 38 P2.3 (in)

## XMC1302-T038X0032 AA
designator U?
32 MHz XMC1300 MCU with 32 KByte Program Memory, 16 KByte SRAM, 3.3 V, 5 V, -40 to 105 degC, PG-TSSOP-38, Reel, Green; Manufacturer: Infineon; PartNumber: XMC1302-T038X0032 AA; A / D input lines (incl. FADC): 12; Digital I/O Lines: 34; E2PROM Emulation (Data-Flash): TRUE; Instruction set architecture: ARM(R) Cortex(TM)-M0 (32-bit); Instruction width [bits]: 32/16; Max Clock Frequency: 32 MHz; Power Modes: clock gating possible; Serial I/O Interfaces: 2; Type of Memory: Flash; Type of Serial I/O Interfaces: UART, SPI, I2C, I2S; DatasheetVersion: Rev. 1.4; PackageReference: PG-TSSOP-38-9; PackageDescription: 38-Pin Plastic (Green) Thin Shrink Small Outline Package, 9.7 x 4.4 mm Body, 0.5 mm Pitch; Green: TRUE; Group: XMC1300; Halogen-free: TRUE; I/O Operation Voltages: 3.3 V, 5 V; On-chip clock generation: TRUE; On-chip Voltage Regulator: TRUE; Oscillator Watchdog: TRUE; Packing: Reel; Program Memory: 32 KByte; Real Time Clock (RTC): TRUE; SRAM (incl. Cache): 16 KByte; Watchdog Timer: TRUE; Mounting Technology: Surface Mount; ComponentLink1Description: Manufacturer URL; ComponentLink1URL: http://www.infineon.com/; ComponentLink2Description: Datasheet; ComponentLink2URL: http://www.infineon.com/dgdl/xmc1300_ds_v1.4_2014_05.pdf?folderId=db3a30433580b3710135a47f3eb76c98&fileId=db3a30433d1d0bbe013d256ee0aa0ccb&sd=t; ComponentLink3Description: Package Specification; ComponentLink3URL: http://www.infineon.com/dgdl/xmc1100_ds_v1.3_2014_02.pdf?folderId=db3a30433580b3710135a47f3eb76c98&fileId=db3a30433d1d0bbe013d256b60160b7f&ack=t
footprint INF-PG-TSSOP-38-9_N (SOP, 38-Leads, Body 9.7x4.4mm, Pitch 0.5mm, IPC Medium Density)
footprint INF-PG-TSSOP-38-9_L (SOP, 38-Leads, Body 9.7x4.4mm, Pitch 0.5mm, IPC High Density)
footprint INF-PG-TSSOP-38-9_M (SOP, 38-Leads, Body 9.7x4.4mm, Pitch 0.5mm, IPC Low Density)
pins: 1 P2.4 (in), 2 P2.5 (in), 3 P2.6 (in), 4 P2.7 (in), 5 P2.8 (in), 6 P2.9 (in), 7 P2.10 (io), 8 P2.11 (io), 9 VSS (power) "Supply GND, ADC reference GND", 10 VDDP/VDD (power), 11 P1.5 (io), 12 P1.4 (io), 13 P1.3 (io), 14 P1.2 (io), 15 P1.1 (io), 16 P1.0 (io), 17 P0.0 (io), 18 P0.1 (io), 19 P0.2 (io), 20 P0.3 (io), 21 P0.4 (io), 22 P0.5 (io), 23 P0.6 (io), 24 P0.7 (io), 25 VSSP (power) "I/O port ground", 26 VDDP (power) "I/O port supply", 27 P0.8 (io), 28 P0.9 (io), 29 P0.10 (io), 30 P0.11 (io), 31 P0.12 (io), 32 P0.13 (io), 33 P0.14 (io), 34 P0.15 (io), 35 P2.0 (io), 36 P2.1 (io), 37 P2.2 (in), 38 P2.3 (in)

## XMC1302-T038X0064 AA
designator U?
32 MHz XMC1300 MCU with 64 KByte Program Memory, 16 KByte SRAM, 3.3 V, 5 V, -40 to 105 degC, PG-TSSOP-38, Reel, Green; Manufacturer: Infineon; PartNumber: XMC1302-T038X0064 AA; A / D input lines (incl. FADC): 12; Digital I/O Lines: 34; E2PROM Emulation (Data-Flash): TRUE; Instruction set architecture: ARM(R) Cortex(TM)-M0 (32-bit); Instruction width [bits]: 32/16; Max Clock Frequency: 32 MHz; Power Modes: clock gating possible; Serial I/O Interfaces: 2; Type of Memory: Flash; Type of Serial I/O Interfaces: UART, SPI, I2C, I2S; DatasheetVersion: Rev. 1.4; PackageReference: PG-TSSOP-38-9; PackageDescription: 38-Pin Plastic (Green) Thin Shrink Small Outline Package, 9.7 x 4.4 mm Body, 0.5 mm Pitch; Green: TRUE; Group: XMC1300; Halogen-free: TRUE; I/O Operation Voltages: 3.3 V, 5 V; On-chip clock generation: TRUE; On-chip Voltage Regulator: TRUE; Oscillator Watchdog: TRUE; Packing: Reel; Program Memory: 64 KByte; Real Time Clock (RTC): TRUE; SRAM (incl. Cache): 16 KByte; Watchdog Timer: TRUE; Mounting Technology: Surface Mount; ComponentLink1Description: Manufacturer URL; ComponentLink1URL: http://www.infineon.com/; ComponentLink2Description: Datasheet; ComponentLink2URL: http://www.infineon.com/dgdl/xmc1300_ds_v1.4_2014_05.pdf?folderId=db3a30433580b3710135a47f3eb76c98&fileId=db3a30433d1d0bbe013d256ee0aa0ccb&sd=t; ComponentLink3Description: Package Specification; ComponentLink3URL: http://www.infineon.com/dgdl/xmc1100_ds_v1.3_2014_02.pdf?folderId=db3a30433580b3710135a47f3eb76c98&fileId=db3a30433d1d0bbe013d256b60160b7f&ack=t
footprint INF-PG-TSSOP-38-9_N (SOP, 38-Leads, Body 9.7x4.4mm, Pitch 0.5mm, IPC Medium Density)
footprint INF-PG-TSSOP-38-9_L (SOP, 38-Leads, Body 9.7x4.4mm, Pitch 0.5mm, IPC High Density)
footprint INF-PG-TSSOP-38-9_M (SOP, 38-Leads, Body 9.7x4.4mm, Pitch 0.5mm, IPC Low Density)
pins: 1 P2.4 (in), 2 P2.5 (in), 3 P2.6 (in), 4 P2.7 (in), 5 P2.8 (in), 6 P2.9 (in), 7 P2.10 (io), 8 P2.11 (io), 9 VSS (power) "Supply GND, ADC reference GND", 10 VDDP/VDD (power), 11 P1.5 (io), 12 P1.4 (io), 13 P1.3 (io), 14 P1.2 (io), 15 P1.1 (io), 16 P1.0 (io), 17 P0.0 (io), 18 P0.1 (io), 19 P0.2 (io), 20 P0.3 (io), 21 P0.4 (io), 22 P0.5 (io), 23 P0.6 (io), 24 P0.7 (io), 25 VSSP (power) "I/O port ground", 26 VDDP (power) "I/O port supply", 27 P0.8 (io), 28 P0.9 (io), 29 P0.10 (io), 30 P0.11 (io), 31 P0.12 (io), 32 P0.13 (io), 33 P0.14 (io), 34 P0.15 (io), 35 P2.0 (io), 36 P2.1 (io), 37 P2.2 (in), 38 P2.3 (in)

## XMC1302-T038X0200 AA
designator U?
32 MHz XMC1300 MCU with 200 KByte Program Memory, 16 KByte SRAM, 3.3 V, 5 V, -40 to 105 degC, PG-TSSOP-38, Reel, Green; Manufacturer: Infineon; PartNumber: XMC1302-T038X0200 AA; A / D input lines (incl. FADC): 12; Digital I/O Lines: 34; E2PROM Emulation (Data-Flash): TRUE; Instruction set architecture: ARM(R) Cortex(TM)-M0 (32-bit); Instruction width [bits]: 32/16; Max Clock Frequency: 32 MHz; Power Modes: clock gating possible; Serial I/O Interfaces: 2; Type of Memory: Flash; Type of Serial I/O Interfaces: UART, SPI, I2C, I2S; DatasheetVersion: Rev. 1.4; PackageReference: PG-TSSOP-38-9; PackageDescription: 38-Pin Plastic (Green) Thin Shrink Small Outline Package, 9.7 x 4.4 mm Body, 0.5 mm Pitch; Green: TRUE; Group: XMC1300; Halogen-free: TRUE; I/O Operation Voltages: 3.3 V, 5 V; On-chip clock generation: TRUE; On-chip Voltage Regulator: TRUE; Oscillator Watchdog: TRUE; Packing: Reel; Program Memory: 200 KByte; Real Time Clock (RTC): TRUE; SRAM (incl. Cache): 16 KByte; Watchdog Timer: TRUE; Mounting Technology: Surface Mount; ComponentLink1Description: Manufacturer URL; ComponentLink1URL: http://www.infineon.com/; ComponentLink2Description: Datasheet; ComponentLink2URL: http://www.infineon.com/dgdl/xmc1300_ds_v1.4_2014_05.pdf?folderId=db3a30433580b3710135a47f3eb76c98&fileId=db3a30433d1d0bbe013d256ee0aa0ccb&sd=t; ComponentLink3Description: Package Specification; ComponentLink3URL: http://www.infineon.com/dgdl/xmc1100_ds_v1.3_2014_02.pdf?folderId=db3a30433580b3710135a47f3eb76c98&fileId=db3a30433d1d0bbe013d256b60160b7f&ack=t
footprint INF-PG-TSSOP-38-9_N (SOP, 38-Leads, Body 9.7x4.4mm, Pitch 0.5mm, IPC Medium Density)
footprint INF-PG-TSSOP-38-9_L (SOP, 38-Leads, Body 9.7x4.4mm, Pitch 0.5mm, IPC High Density)
footprint INF-PG-TSSOP-38-9_M (SOP, 38-Leads, Body 9.7x4.4mm, Pitch 0.5mm, IPC Low Density)
pins: 1 P2.4 (in), 2 P2.5 (in), 3 P2.6 (in), 4 P2.7 (in), 5 P2.8 (in), 6 P2.9 (in), 7 P2.10 (io), 8 P2.11 (io), 9 VSS (power) "Supply GND, ADC reference GND", 10 VDDP/VDD (power), 11 P1.5 (io), 12 P1.4 (io), 13 P1.3 (io), 14 P1.2 (io), 15 P1.1 (io), 16 P1.0 (io), 17 P0.0 (io), 18 P0.1 (io), 19 P0.2 (io), 20 P0.3 (io), 21 P0.4 (io), 22 P0.5 (io), 23 P0.6 (io), 24 P0.7 (io), 25 VSSP (power) "I/O port ground", 26 VDDP (power) "I/O port supply", 27 P0.8 (io), 28 P0.9 (io), 29 P0.10 (io), 30 P0.11 (io), 31 P0.12 (io), 32 P0.13 (io), 33 P0.14 (io), 34 P0.15 (io), 35 P2.0 (io), 36 P2.1 (io), 37 P2.2 (in), 38 P2.3 (in)

## XMC1302-T038X-0016 AA
designator U?
32 MHz XMC1000 MCU with 16 KByte Program Memory, 16 KByte SRAM, 1.8 V, 5 V, -40 to 105 degC, PG-TSSOP-38, Green; Manufacturer: Infineon; PartNumber: XMC1302-T038X-0016 AA; A / D input lines (incl. FADC): 12; Digital I/O Lines: 33; E2PROM Emulation (Data-Flash): TRUE; I/O Operation Voltages: 1.8 V, 5.0 V; Instruction set architecture: ARM Cortex-M0; Instruction width [bits]: 32/16; Max Clock Frequency: 32 MHz; Power Modes: clock gating possible; Serial I/O Interfaces: 2; Type of Memory: Flash; Type of Serial I/O Interfaces: SPI(2), Dual SPI, Quad SPI, UART, I2C, I2S; DatasheetVersion: Rev. 0.6; PackageVersion: V0.6, 03/2013; PackageReference: PG-TSSOP-38-9; PackageDescription: 38-Pin Plastic (Green) Thin Shrink Small Outline Package, Body 9.7 x 4.4 mm, Pitch 0.5 mm; Green: TRUE; Halogen-free: TRUE; On-chip clock generation: TRUE; On-chip Voltage Regulator: TRUE; Oscillator Watchdog: TRUE; Program Memory: 16 KByte; Real Time Clock (RTC): TRUE; SRAM (incl. Cache): 16 KByte; Watchdog Timer: TRUE; Mounting Technology: Surface Mount; ComponentLink1Description: Manufacturer URL; ComponentLink1URL: http://www.infineon.com/; ComponentLink2Description: Datasheet; ComponentLink2URL: http://www.infineon.com/dgdl/xmc1300_ds_v0+5_2013_03_04.pdf?folderId=db3a30433580b3710135a47f3eb76c98&fileId=db3a30433d1d0bbe013d256ee0aa0ccb; ComponentLink3Description: Package Specification; ComponentLink3URL: http://www.infineon.com/dgdl/xmc1100_ds_v0+5_2013_03_04.pdf?folderId=db3a30433580b3710135a47f3eb76c98&fileId=db3a30433d1d0bbe013d256b60160b7f
footprint INF-PG-TSSOP-38-9_N (SOP, 38-Leads, Body 9.7x4.4mm, Pitch 0.5mm, IPC Medium Density)
footprint INF-PG-TSSOP-38-9_L (SOP, 38-Leads, Body 9.7x4.4mm, Pitch 0.5mm, IPC High Density)
footprint INF-PG-TSSOP-38-9_M (SOP, 38-Leads, Body 9.7x4.4mm, Pitch 0.5mm, IPC Low Density)
pins: 1 P2.4 (in), 2 P2.5 (in), 3 P2.6 (in), 4 P2.7 (in), 5 P2.8 (in), 6 P2.9 (in), 7 P2.10 (io), 8 P2.11 (io), 9 VSS (power) "Supply GND, ADC reference GND", 10 VDD (power) "Supply VDD, ADC reference voltage", 11 P1.5 (io), 12 P1.4 (io), 13 P1.3 (io), 14 P1.2 (io), 15 P1.1 (io), 16 P1.0 (io), 17 P0.0 (io), 18 P0.1 (io), 19 P0.2 (io), 20 P0.3 (io), 21 P0.4 (io), 22 P0.5 (io), 23 P0.6 (io), 24 P0.7 (io), 25 VSSP (power) "I/O port ground", 26 VDDP (power) "I/O port supply", 27 P0.8 (io), 28 P0.9 (io), 29 P0.10 (io), 30 P0.11 (io), 31 P0.12 (io), 32 P0.13 (io), 33 P0.14 (io), 34 P0.15 (io), 35 P2.0 (io), 36 P2.1 (io), 37 P2.2 (in), 38 P2.3 (in)

## XMC1302-T038X-0032 AA
designator U?
32 MHz XMC1000 MCU with 32 KByte Program Memory, 16 KByte SRAM, 1.8 V, 5 V, -40 to 105 degC, PG-TSSOP-38, Green; Manufacturer: Infineon; PartNumber: XMC1302-T038X-0032 AA; A / D input lines (incl. FADC): 12; Digital I/O Lines: 33; E2PROM Emulation (Data-Flash): TRUE; I/O Operation Voltages: 1.8 V, 5.0 V; Instruction set architecture: ARM Cortex-M0; Instruction width [bits]: 32/16; Max Clock Frequency: 32 MHz; Power Modes: clock gating possible; Serial I/O Interfaces: 2; Type of Memory: Flash; Type of Serial I/O Interfaces: SPI(2), Dual SPI, Quad SPI, UART, I2C, I2S; DatasheetVersion: Rev. 0.6; PackageVersion: V0.6, 03/2013; PackageReference: PG-TSSOP-38-9; PackageDescription: 38-Pin Plastic (Green) Thin Shrink Small Outline Package, Body 9.7 x 4.4 mm, Pitch 0.5 mm; Green: TRUE; Halogen-free: TRUE; On-chip clock generation: TRUE; On-chip Voltage Regulator: TRUE; Oscillator Watchdog: TRUE; Program Memory: 32 KByte; Real Time Clock (RTC): TRUE; SRAM (incl. Cache): 16 KByte; Watchdog Timer: TRUE; Mounting Technology: Surface Mount; ComponentLink1Description: Manufacturer URL; ComponentLink1URL: http://www.infineon.com/; ComponentLink2Description: Datasheet; ComponentLink2URL: http://www.infineon.com/dgdl/xmc1300_ds_v0+5_2013_03_04.pdf?folderId=db3a30433580b3710135a47f3eb76c98&fileId=db3a30433d1d0bbe013d256ee0aa0ccb; ComponentLink3Description: Package Specification; ComponentLink3URL: http://www.infineon.com/dgdl/xmc1100_ds_v0+5_2013_03_04.pdf?folderId=db3a30433580b3710135a47f3eb76c98&fileId=db3a30433d1d0bbe013d256b60160b7f
footprint INF-PG-TSSOP-38-9_N (SOP, 38-Leads, Body 9.7x4.4mm, Pitch 0.5mm, IPC Medium Density)
footprint INF-PG-TSSOP-38-9_L (SOP, 38-Leads, Body 9.7x4.4mm, Pitch 0.5mm, IPC High Density)
footprint INF-PG-TSSOP-38-9_M (SOP, 38-Leads, Body 9.7x4.4mm, Pitch 0.5mm, IPC Low Density)
pins: 1 P2.4 (in), 2 P2.5 (in), 3 P2.6 (in), 4 P2.7 (in), 5 P2.8 (in), 6 P2.9 (in), 7 P2.10 (io), 8 P2.11 (io), 9 VSS (power) "Supply GND, ADC reference GND", 10 VDD (power) "Supply VDD, ADC reference voltage", 11 P1.5 (io), 12 P1.4 (io), 13 P1.3 (io), 14 P1.2 (io), 15 P1.1 (io), 16 P1.0 (io), 17 P0.0 (io), 18 P0.1 (io), 19 P0.2 (io), 20 P0.3 (io), 21 P0.4 (io), 22 P0.5 (io), 23 P0.6 (io), 24 P0.7 (io), 25 VSSP (power) "I/O port ground", 26 VDDP (power) "I/O port supply", 27 P0.8 (io), 28 P0.9 (io), 29 P0.10 (io), 30 P0.11 (io), 31 P0.12 (io), 32 P0.13 (io), 33 P0.14 (io), 34 P0.15 (io), 35 P2.0 (io), 36 P2.1 (io), 37 P2.2 (in), 38 P2.3 (in)

## XMC1302-T038X-0064 AA
designator U?
32 MHz XMC1000 MCU with 64 KByte Program Memory, 16 KByte SRAM, 1.8 V, 5 V, -40 to 105 degC, PG-TSSOP-38, Green; Manufacturer: Infineon; PartNumber: XMC1302-T038X-0064 AA; A / D input lines (incl. FADC): 12; Digital I/O Lines: 33; E2PROM Emulation (Data-Flash): TRUE; I/O Operation Voltages: 1.8 V, 5.0 V; Instruction set architecture: ARM Cortex-M0; Instruction width [bits]: 32/16; Max Clock Frequency: 32 MHz; Power Modes: clock gating possible; Serial I/O Interfaces: 2; Type of Memory: Flash; Type of Serial I/O Interfaces: SPI(2), Dual SPI, Quad SPI, UART, I2C, I2S; DatasheetVersion: Rev. 0.6; PackageVersion: V0.6, 03/2013; PackageReference: PG-TSSOP-38-9; PackageDescription: 38-Pin Plastic (Green) Thin Shrink Small Outline Package, Body 9.7 x 4.4 mm, Pitch 0.5 mm; Green: TRUE; Halogen-free: TRUE; On-chip clock generation: TRUE; On-chip Voltage Regulator: TRUE; Oscillator Watchdog: TRUE; Program Memory: 64 KByte; Real Time Clock (RTC): TRUE; SRAM (incl. Cache): 16 KByte; Watchdog Timer: TRUE; Mounting Technology: Surface Mount; ComponentLink1Description: Manufacturer URL; ComponentLink1URL: http://www.infineon.com/; ComponentLink2Description: Datasheet; ComponentLink2URL: http://www.infineon.com/dgdl/xmc1300_ds_v0+5_2013_03_04.pdf?folderId=db3a30433580b3710135a47f3eb76c98&fileId=db3a30433d1d0bbe013d256ee0aa0ccb; ComponentLink3Description: Package Specification; ComponentLink3URL: http://www.infineon.com/dgdl/xmc1100_ds_v0+5_2013_03_04.pdf?folderId=db3a30433580b3710135a47f3eb76c98&fileId=db3a30433d1d0bbe013d256b60160b7f
footprint INF-PG-TSSOP-38-9_N (SOP, 38-Leads, Body 9.7x4.4mm, Pitch 0.5mm, IPC Medium Density)
footprint INF-PG-TSSOP-38-9_L (SOP, 38-Leads, Body 9.7x4.4mm, Pitch 0.5mm, IPC High Density)
footprint INF-PG-TSSOP-38-9_M (SOP, 38-Leads, Body 9.7x4.4mm, Pitch 0.5mm, IPC Low Density)
pins: 1 P2.4 (in), 2 P2.5 (in), 3 P2.6 (in), 4 P2.7 (in), 5 P2.8 (in), 6 P2.9 (in), 7 P2.10 (io), 8 P2.11 (io), 9 VSS (power) "Supply GND, ADC reference GND", 10 VDD (power) "Supply VDD, ADC reference voltage", 11 P1.5 (io), 12 P1.4 (io), 13 P1.3 (io), 14 P1.2 (io), 15 P1.1 (io), 16 P1.0 (io), 17 P0.0 (io), 18 P0.1 (io), 19 P0.2 (io), 20 P0.3 (io), 21 P0.4 (io), 22 P0.5 (io), 23 P0.6 (io), 24 P0.7 (io), 25 VSSP (power) "I/O port ground", 26 VDDP (power) "I/O port supply", 27 P0.8 (io), 28 P0.9 (io), 29 P0.10 (io), 30 P0.11 (io), 31 P0.12 (io), 32 P0.13 (io), 33 P0.14 (io), 34 P0.15 (io), 35 P2.0 (io), 36 P2.1 (io), 37 P2.2 (in), 38 P2.3 (in)

## XMC1302-T038X-0200 AA
designator U?
32 MHz XMC1000 MCU with 200 KByte Program Memory, 16 KByte SRAM, 1.8 V, 5 V, -40 to 105 degC, PG-TSSOP-38, Green; Manufacturer: Infineon; PartNumber: XMC1302-T038X-0200 AA; A / D input lines (incl. FADC): 12; Digital I/O Lines: 33; E2PROM Emulation (Data-Flash): TRUE; I/O Operation Voltages: 1.8 V, 5.0 V; Instruction set architecture: ARM Cortex-M0; Instruction width [bits]: 32/16; Max Clock Frequency: 32 MHz; Power Modes: clock gating possible; Serial I/O Interfaces: 2; Type of Memory: Flash; Type of Serial I/O Interfaces: SPI(2), Dual SPI, Quad SPI, UART, I2C, I2S; DatasheetVersion: Rev. 0.6; PackageVersion: V0.6, 03/2013; PackageReference: PG-TSSOP-38-9; PackageDescription: 38-Pin Plastic (Green) Thin Shrink Small Outline Package, Body 9.7 x 4.4 mm, Pitch 0.5 mm; Green: TRUE; Halogen-free: TRUE; On-chip clock generation: TRUE; On-chip Voltage Regulator: TRUE; Oscillator Watchdog: TRUE; Program Memory: 200 KByte; Real Time Clock (RTC): TRUE; SRAM (incl. Cache): 16 KByte; Watchdog Timer: TRUE; Mounting Technology: Surface Mount; ComponentLink1Description: Manufacturer URL; ComponentLink1URL: http://www.infineon.com/; ComponentLink2Description: Datasheet; ComponentLink2URL: http://www.infineon.com/dgdl/xmc1300_ds_v0+5_2013_03_04.pdf?folderId=db3a30433580b3710135a47f3eb76c98&fileId=db3a30433d1d0bbe013d256ee0aa0ccb; ComponentLink3Description: Package Specification; ComponentLink3URL: http://www.infineon.com/dgdl/xmc1100_ds_v0+5_2013_03_04.pdf?folderId=db3a30433580b3710135a47f3eb76c98&fileId=db3a30433d1d0bbe013d256b60160b7f
footprint INF-PG-TSSOP-38-9_N (SOP, 38-Leads, Body 9.7x4.4mm, Pitch 0.5mm, IPC Medium Density)
footprint INF-PG-TSSOP-38-9_L (SOP, 38-Leads, Body 9.7x4.4mm, Pitch 0.5mm, IPC High Density)
footprint INF-PG-TSSOP-38-9_M (SOP, 38-Leads, Body 9.7x4.4mm, Pitch 0.5mm, IPC Low Density)
pins: 1 P2.4 (in), 2 P2.5 (in), 3 P2.6 (in), 4 P2.7 (in), 5 P2.8 (in), 6 P2.9 (in), 7 P2.10 (io), 8 P2.11 (io), 9 VSS (power) "Supply GND, ADC reference GND", 10 VDD (power) "Supply VDD, ADC reference voltage", 11 P1.5 (io), 12 P1.4 (io), 13 P1.3 (io), 14 P1.2 (io), 15 P1.1 (io), 16 P1.0 (io), 17 P0.0 (io), 18 P0.1 (io), 19 P0.2 (io), 20 P0.3 (io), 21 P0.4 (io), 22 P0.5 (io), 23 P0.6 (io), 24 P0.7 (io), 25 VSSP (power) "I/O port ground", 26 VDDP (power) "I/O port supply", 27 P0.8 (io), 28 P0.9 (io), 29 P0.10 (io), 30 P0.11 (io), 31 P0.12 (io), 32 P0.13 (io), 33 P0.14 (io), 34 P0.15 (io), 35 P2.0 (io), 36 P2.1 (io), 37 P2.2 (in), 38 P2.3 (in)

## XMC4100-F64F128 AB
designator U?
80 MHz XMC4100 MCU with 128 KByte Program Memory, 20 KByte SRAM, 3.3 V, -40 to 85 degC, PG-LQFP-64, Green; Manufacturer: Infineon; PartNumber: XMC4100-F64F128 AB; A / D input lines (incl. FADC): 9; Digital I/O Lines: 35; Green: TRUE; Type of Memory: Flash; Type of Serial I/O Interfaces: 4xSPI, Dual SPI, Quad SPI, UART, LIN, IIC, IIS; DatasheetVersion: Rev. 0.6; PackageVersion: Rev. 13, 11/2012; PackageReference: PG-LQFP-64-19; PackageDescription: 64-Pin Plastic (Green) Low Profile Quad Flat Package, 10 x 10 mm Body, 0.5 mm Pitch; Group: XMC4100; Halogen-free: TRUE; Program Memory: 128 KByte; RoHS: TRUE; SRAM (incl. Cache): 20 KByte; Mounting Technology: Surface Mount; ComponentLink1Description: Manufacturer URL; ComponentLink1URL: http://www.infineon.com/; ComponentLink2Description: Datasheet; ComponentLink2URL: http://www.infineon.com/dgdl/xmc4100_xmc4200_ds_v0.6_2012_11.pdf?folderId=db3a30433580b3710135a47f3eb76c98&fileId=db3a30433afc7e3e013b3cf9b2816573&location=en.Products.Microcontrollers.32-bit_Industrial_Microcontrollers_based_on_ARM__Cortex_-M.32-bit_XMC4000_Industrial_Microcontrollers_ARM__Cortex_-M4.DATASHEET.xmc4100_xmc4200_ds_v0.6_2012_11.pdf; ComponentLink3Description: Package Specification; ComponentLink3URL: http://www.infineon.com/dgdl/xmc4100_xmc4200_ds_v0.6_2012_11.pdf?folderId=db3a30433580b3710135a47f3eb76c98&fileId=db3a30433afc7e3e013b3cf9b2816573&location=en.Products.Microcontrollers.32-bit_Industrial_Microcontrollers_based_on_ARM__Cortex_-M.32-bit_XMC4000_Industrial_Microcontrollers_ARM__Cortex_-M4.DATASHEET.xmc4100_xmc4200_ds_v0.6_2012_11.pdf
footprint INF-PG-LQFP-64-19-5800X5800TP_N (QFP, 64-Leads, Body 10x10mm, Pitch 0.5mm, Thermal Pad 5.8x5.8mm, IPC Medium Density)
footprint INF-PG-LQFP-64-19-5800X5800TP_L (QFP, 64-Leads, Body 10x10mm, Pitch 0.5mm, Thermal Pad 5.8x5.8mm, IPC High Density)
footprint INF-PG-LQFP-64-19-5800X5800TP_M (QFP, 64-Leads, Body 10x10mm, Pitch 0.5mm, Thermal Pad 5.8x5.8mm, IPC Low Density)
part A pins: 1 P0.1 (io), 2 P0.0 (io), 3 P0.10 (io), 4 P0.9 (io), 5 P3.0 (io), 14 P14.14 (in), 15 P14.7 (in), 16 P14.6 (in), 17 P14.5 (in), 18 P14.4 (in), 19 P14.3 (in), 20 P14.0 (in), 23 P14.9 (io), 24 P14.8 (io), 25 P2.15 (io), 26 P2.14 (io), 27 P2.9 (io), 28 P2.8 (io), 29 P2.5 (io), 30 P2.4 (io), 31 P2.3 (io), 32 P2.2 (io), 33 P2.1 (io), 34 P2.0 (io), 35 P2.7 (io), 36 P2.6 (io), 46 P1.15 (io), 47 P1.5 (io), 48 P1.4 (io), 49 P1.3 (io), 50 P1.2 (io), 51 P1.1 (io), 52 P1.0 (io), 53 P1.9 (io), 54 P1.8 (io), 55 P1.7 (io), 57 P0.8 (io), 58 P0.7 (io), 59 P0.11 (io), 60 P0.6 (io), 61 P0.5 (io), 62 P0.4 (io), 63 P0.3 (io), 64 P0.2 (io)
part B pins: 6 USB_DM (io), 7 USB_DP (io), 10 HIB_IO_0 (io), 11 RTC_XTAL1, 12 RTC_XTAL2, 39 XTAL1, 40 XTAL2, 43 ~{PORST} (io) "Strong pull-down controlled by EVR. Weak pull-up active while strong pull-down is not active.", 44 TMS (io), 45 TCK (in)
part C pins: 8 VDDP (power), 9 VDDC (power), 13 VBAT (power) "When VDDP is supplied VBAT has to be supplied as well.", 21 VSSA/VAGND (power) "Shared analog supply and reference ground pin.", 22 VDDA/VAREF (power) "Shared analog supply and reference voltage pin.", 37 VSS (power), 38 VDDP (power), 41 VSSO (power), 42 VDDC (power), 56 VDDP (power), 65 VSS (power) "Exposed Die Pad. The exposed die pad is connected internally to VSS. For proper operation, it is mandatory to connect the exposed pad to the board ground. For thermal aspects, please refer to the Data Sheet. Board layout (See Datasheet)"

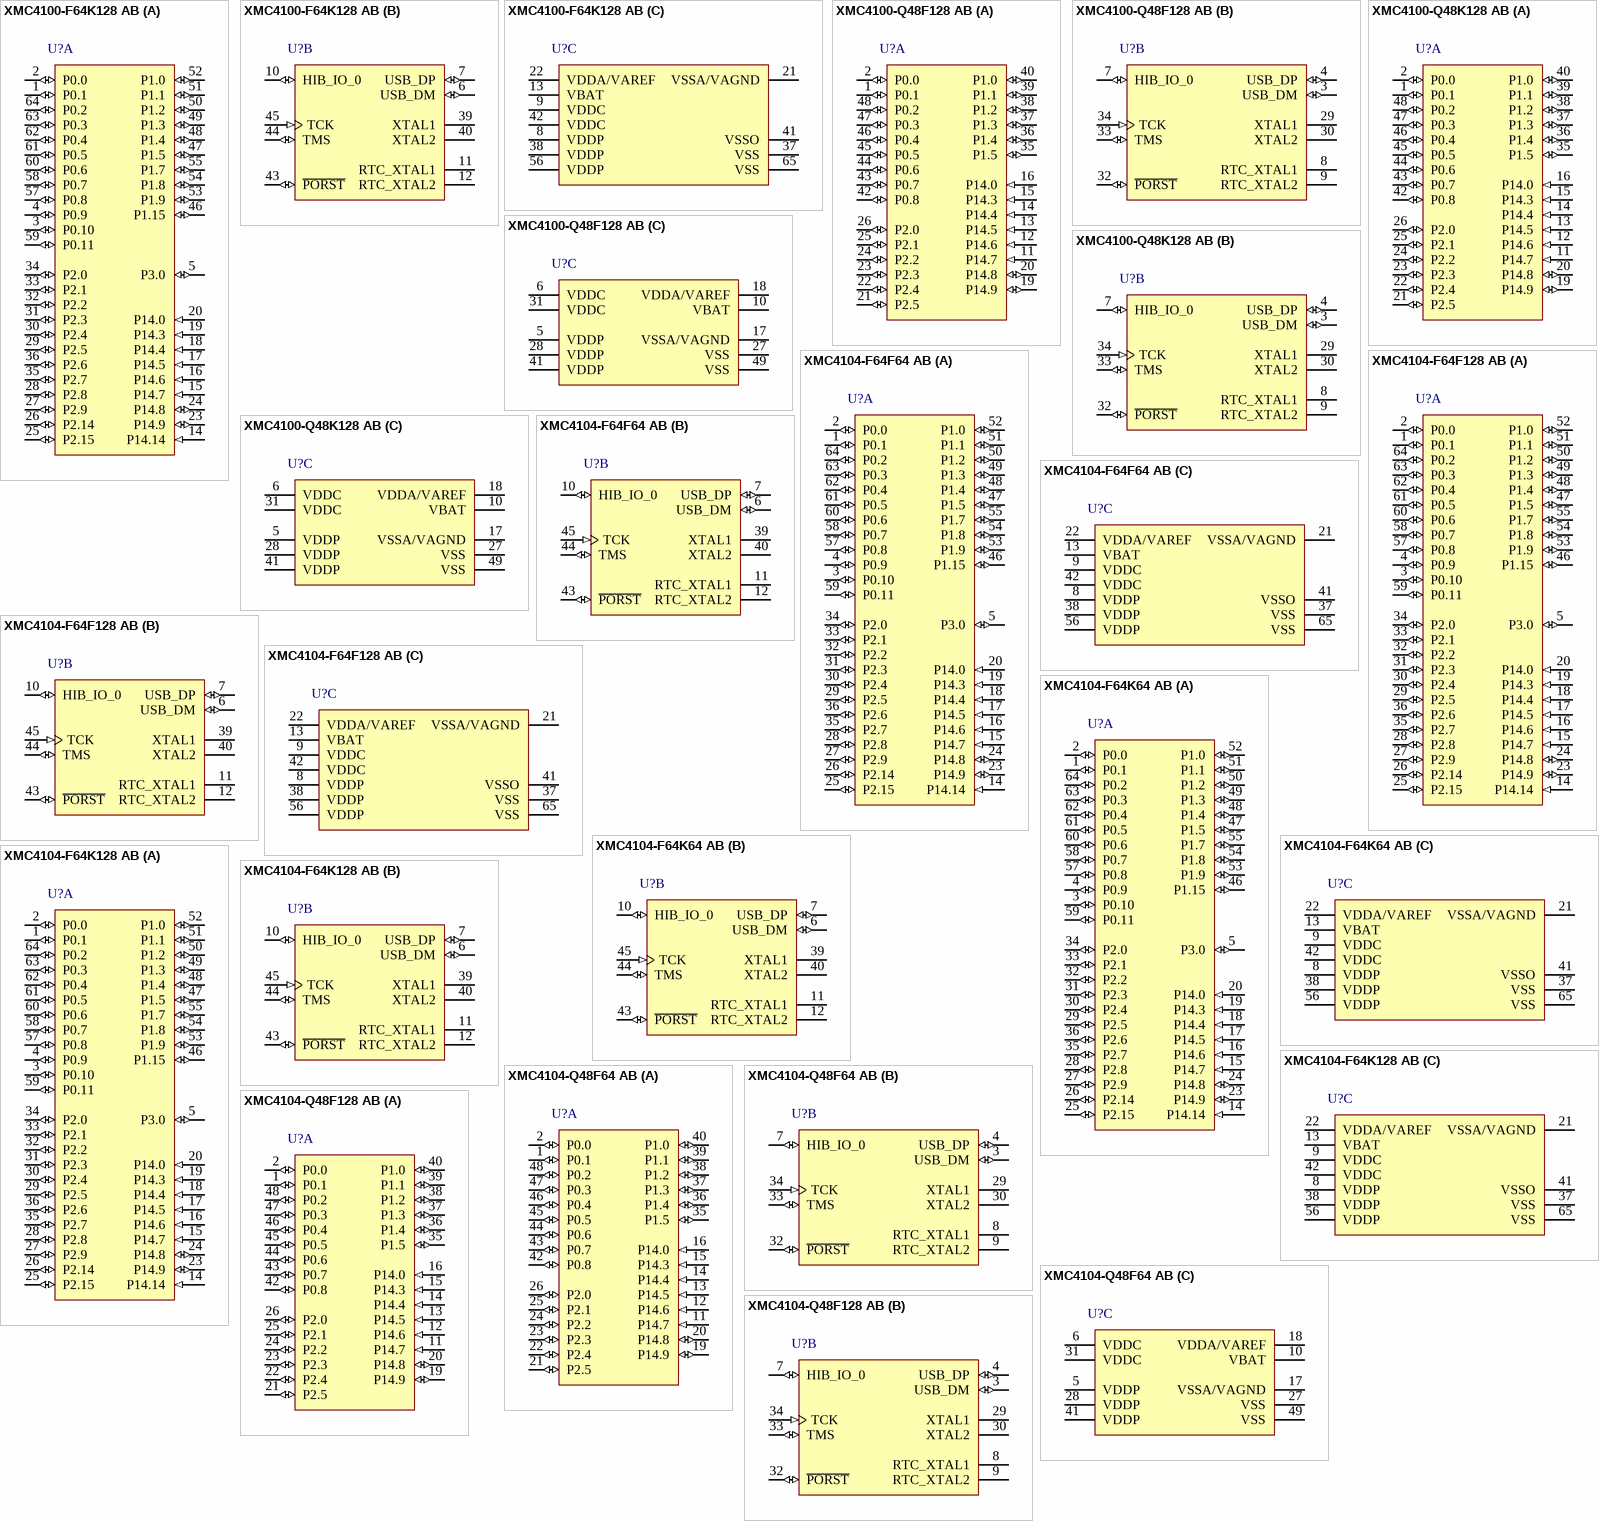
[diagram p109: symbols XMC4100-F64K128 AB to XMC4104-Q48F128 AB]